# Altium footprint library Connector_RJ.PcbLib: 38 footprints (part 2 of 3)
Each footprint in its own frame and in the unit in brackets; x right, y up, seen from the top. Pads: shape width x height; smd on the part's side, far side on the other; paste and mask are expansions set on the pad; w line width, h text height; cw(c..) or ccw(c..) is an arc to the next point about the centre after c.
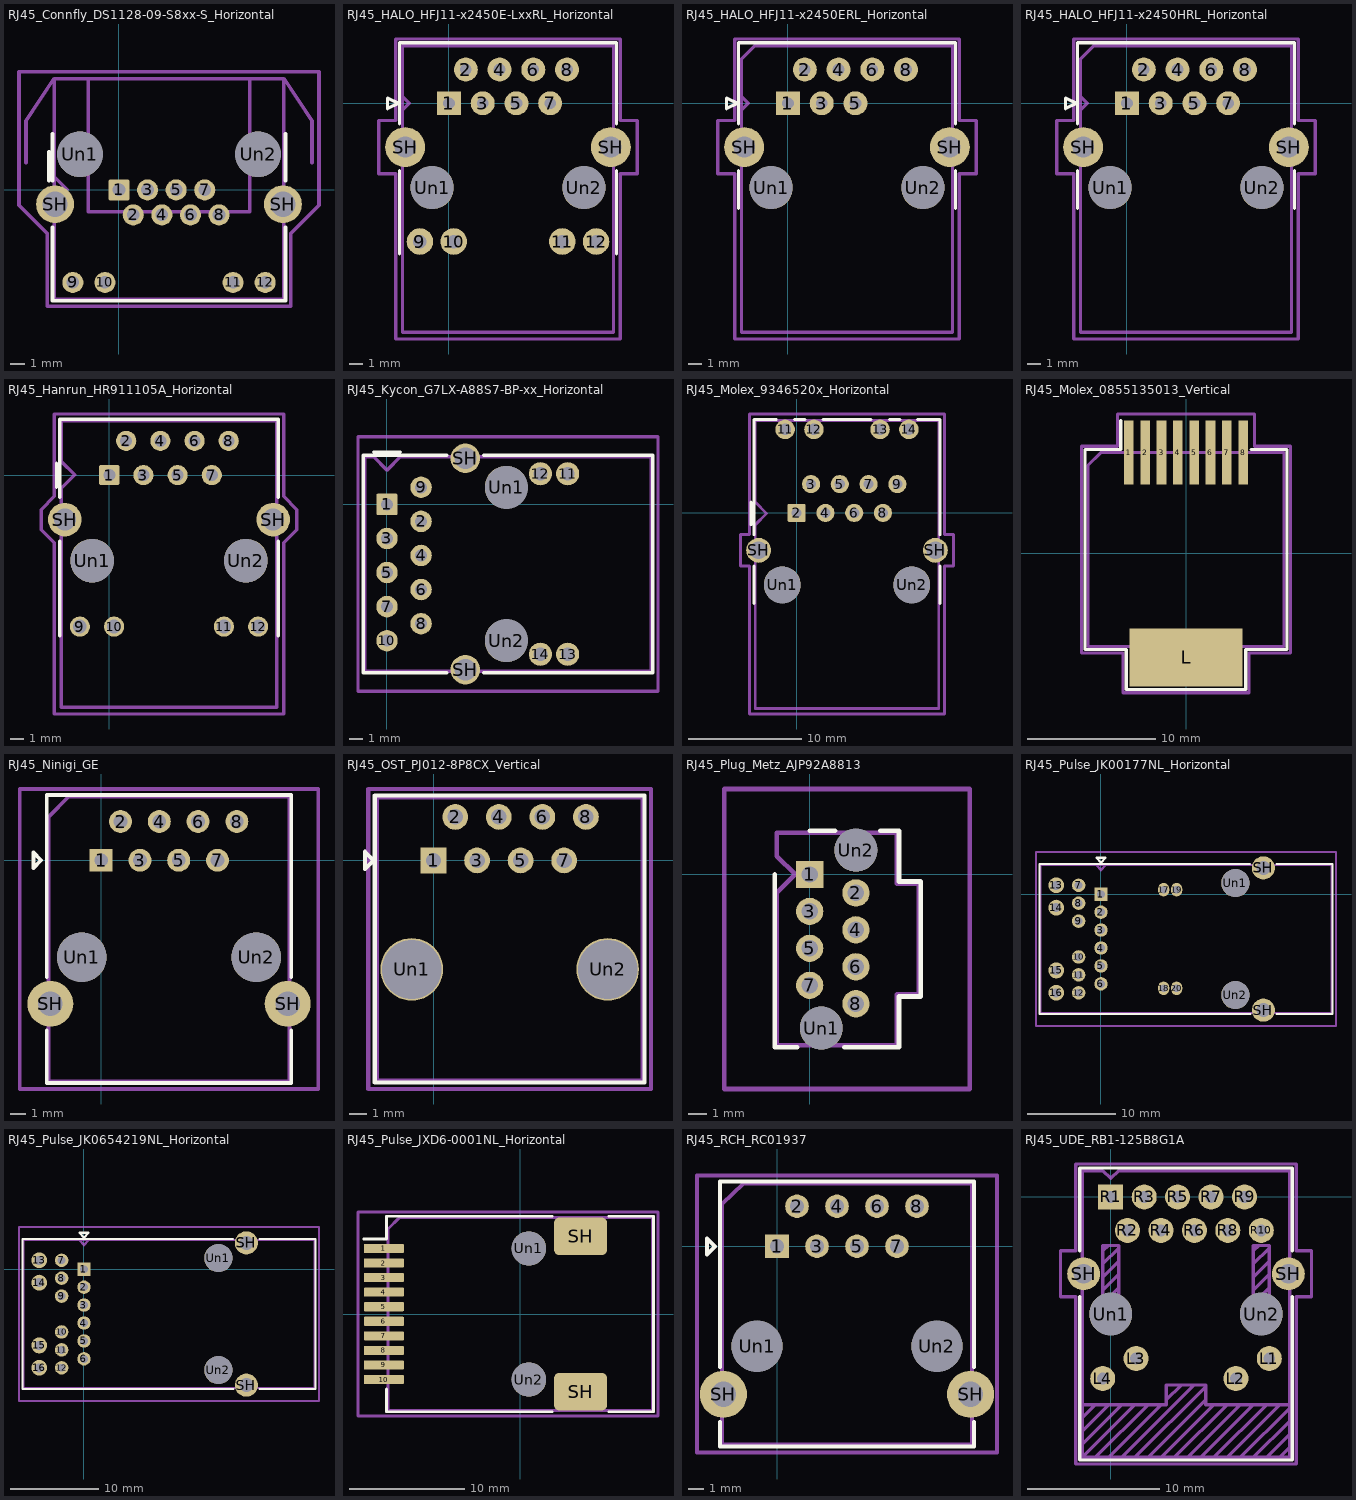
[diagram p1: the footprints below, top view; thin cyan lines are the x and y axes]

## RJ45_Connfly_DS1128-09-S8xx-S_Horizontal [mm]
pads (16):
  rrect17% 1.5x1.5 hole 0.9: 1(0,0)
  round 1.5 hole 0.9: 2(1.02,-1.78) 3(2.04,0) 4(3.06,-1.78) 5(4.08,0) 6(5.1,-1.78) 7(6.12,0) 8(7.14,-1.78) 9(-3.29,-6.6) 10(-1,-6.6) 11(8.14,-6.6) 12(10.43,-6.6)
  round 2.7 hole 1.8: SH(-4.56,-1.02) SH(11.7,-1.02)
  round 3.25 hole 3.25: Un1(-2.78,2.54) Un2(9.92,2.54)
F.SilkS:
  lines w0.254: -4.99,0.64 -4.99,2.71 ; -4.74,-2.66 -4.74,-7.92 11.88,-7.92 11.88,-2.66 ; -4.74,0.64 -4.74,4 ; 11.88,0.65 11.88,4
Top Assembly:
  lines w0.254: -6.63,1.94 -6.63,4.94 -4.63,7.94 ; -4.68,-1 -3.68,0 -4.68,1 ; 13.77,1.94 13.77,4.94 11.77,7.94 ; -4.63,7.94 -4.63,-7.81 11.77,-7.81 11.77,7.94 ; -4.63,7.94 11.77,7.94 ; -2.18,-1.56 9.32,-1.56 9.32,7.94 -2.18,7.94 -2.18,-1.56
  text "'.Designator'" at -0.477,-0.775 h1
Top Courtyard:
  lines w0.254: -7.13,-1.1 -5.13,-3.1 -5.13,-8.31 12.27,-8.31 12.27,-3.1 14.27,-1.1 14.27,8.44 -7.13,8.44 -7.13,-1.1
Top Designator:
  text ".Designator" at -4.048,-0.443 h1.52

## RJ45_HALO_HFJ11-x2450E-LxxRL_Horizontal [mm]
pads (16):
  rect 1.8x1.8 hole 0.89: 1(0,0)
  round 1.8 hole 0.89: 2(1.27,2.54) 3(2.54,0) 4(3.81,2.54) 5(5.08,0) 6(6.35,2.54) 7(7.62,0) 8(8.89,2.54)
  round 2 hole 1.02: 9(-2.185,-10.41) 10(0.355,-10.41) 11(8.535,-10.41) 12(11.075,-10.41)
  round 3 hole 1.6: SH(-3.3,-3.3) SH(12.19,-3.3)
  round 3.25 hole 3.25: Un1(-1.27,-6.35) Un2(10.16,-6.35)
F.SilkS:
  lines w0.254: -3.725,-11.35 -3.725,-5.06 ; -3.725,-1.54 -3.725,4.57 12.615,4.57 12.615,-1.54 ; 12.615,-11.35 12.615,-5.06 ; -4.625,-0.4 -3.825,0 -4.625,0.4 -4.625,-0.4
Top Assembly:
  lines w0.254: -3.495,-0.5 -2.995,0 -3.495,0.5 ; -3.495,-17.25 12.385,-17.25 12.385,4.34 -3.495,4.34 -3.495,-17.25
  text "'.Designator'" at 0.398,-14.84 h1
Top Courtyard:
  lines w0.254: -5.3,-5.3 -4,-5.3 -4,-17.75 12.89,-17.75 12.89,-5.3 14.19,-5.3 14.19,-1.3 12.89,-1.3 12.89,4.84 -4,4.84 -4,-1.3 -5.3,-1.3 -5.3,-5.3
Top Designator:
  text ".Designator" at -3.173,-6.963 h1.52

## RJ45_HALO_HFJ11-x2450ERL_Horizontal [mm]
pads (11):
  rect 1.8x1.8 hole 0.89: 1(0,0)
  round 1.8 hole 0.89: 2(1.27,2.54) 3(2.54,0) 4(3.81,2.54) 5(5.08,0) 6(6.35,2.54) 8(8.89,2.54)
  round 3 hole 1.6: SH(-3.3,-3.3) SH(12.19,-3.3)
  round 3.25 hole 3.25: Un1(-1.27,-6.35) Un2(10.16,-6.35)
F.SilkS:
  lines w0.254: -3.725,-7.915 -3.725,-5.06 ; -3.725,-1.54 -3.725,4.57 12.615,4.57 12.615,-1.54 ; 12.615,-7.915 12.615,-5.06 ; -4.625,-0.4 -3.825,0 -4.625,0.4 -4.625,-0.4
Top Assembly:
  lines w0.254: -3.495,-0.5 -2.995,0 -3.495,0.5 ; -3.495,-17.25 12.385,-17.25 12.385,4.34 -2.495,4.34 -3.495,3.34 -3.495,-17.25
  text "'.Designator'" at 0.398,-10.84 h1
Top Courtyard:
  lines w0.254: -5.3,-5.3 -4,-5.3 -4,-17.75 12.89,-17.75 12.89,-5.3 14.19,-5.3 14.19,-1.3 12.89,-1.3 12.89,4.84 -4,4.84 -4,-1.3 -5.3,-1.3 -5.3,-5.3
Top Designator:
  text ".Designator" at -3.173,-6.963 h1.52

## RJ45_HALO_HFJ11-x2450HRL_Horizontal [mm]
pads (12):
  rect 1.8x1.8 hole 0.89: 1(0,0)
  round 1.8 hole 0.89: 2(1.27,2.54) 3(2.54,0) 4(3.81,2.54) 5(5.08,0) 6(6.35,2.54) 7(7.62,0) 8(8.89,2.54)
  round 3 hole 1.6: SH(-3.3,-3.3) SH(12.19,-3.3)
  round 3.25 hole 3.25: Un1(-1.27,-6.35) Un2(10.16,-6.35)
F.SilkS:
  lines w0.254: -3.725,-7.915 -3.725,-5.06 ; -3.725,-1.54 -3.725,4.57 12.615,4.57 12.615,-1.54 ; 12.615,-7.915 12.615,-5.06 ; -4.625,-0.4 -3.825,0 -4.625,0.4 -4.625,-0.4
Top Assembly:
  lines w0.254: -3.495,-0.5 -2.995,0 -3.495,0.5 ; -3.495,-17.25 12.385,-17.25 12.385,4.34 -2.495,4.34 -3.495,3.34 -3.495,-17.25
  text "'.Designator'" at 0.398,-10.84 h1
Top Courtyard:
  lines w0.254: -5.3,-5.3 -4,-5.3 -4,-17.75 12.89,-17.75 12.89,-5.3 14.19,-5.3 14.19,-1.3 12.89,-1.3 12.89,4.84 -4,4.84 -4,-1.3 -5.3,-1.3 -5.3,-5.3
Top Designator:
  text ".Designator" at -3.173,-6.963 h1.52

## RJ45_Hanrun_HR911105A_Horizontal [mm]
pads (16):
  rrect17% 1.5x1.5 hole 0.89: 1(0,0)
  round 1.5 hole 0.89: 2(1.26,2.54) 3(2.54,0) 4(3.8,2.54) 5(5.08,0) 6(6.34,2.54) 7(7.62,0) 8(8.88,2.54)
  round 1.5 hole 1.02: 9(-2.185,-11.26) 10(0.355,-11.26) 11(8.525,-11.26) 12(11.065,-11.26)
  round 2.5 hole 1.63: SH(-3.305,-3.31) SH(12.185,-3.31)
  round 3.25 hole 3.25: Un1(-1.275,-6.36) Un2(10.155,-6.36)
F.SilkS:
  lines w0.254: -3.92,-0.9 -3.92,0.9 ; -3.69,-11.95 -3.69,-4.93 ; -3.69,-1.65 -3.69,4.15 12.57,4.15 12.57,-1.65 ; 12.57,-11.95 12.57,-4.93
Top Assembly:
  lines w0.254: -3.58,-17.26 12.46,-17.26 12.46,4.04 -3.58,4.04 -3.58,1.01 -2.58,0.01 -3.58,-0.99 -3.58,-17.26
  text "'.Designator'" at 0.393,-7.2 h1
Top Courtyard:
  lines w0.254: -5.06,-4.05 -4.08,-5.03 -4.08,-17.76 12.96,-17.76 12.96,-5.03 13.94,-4.05 13.94,-2.57 12.96,-1.59 12.96,4.54 -4.08,4.54 -4.08,-1.59 -5.06,-2.57 -5.06,-4.05
Top Designator:
  text ".Designator" at -3.178,-7.118 h1.52

## RJ45_Kycon_G7LX-A88S7-BP-xx_Horizontal [mm]
pads (18):
  rrect16% 1.6x1.6 hole 0.89: 1(0,0)
  round 1.6 hole 0.89: 2(2.54,-1.27) 3(0,-2.54) 4(2.54,-3.81) 5(0,-5.08) 6(2.54,-6.35) 7(0,-7.62) 8(2.54,-8.89) 9(2.54,1.27) 10(0,-10.16)
  round 1.72 hole 1.02: 11(13.46,2.28) 12(11.43,2.28) 13(13.46,-11.17) 14(11.43,-11.17)
  round 2.2 hole 1.63: SH(5.84,-12.32) SH(5.84,3.43)
  round 3.2 hole 3.2: Un1(8.89,1.27) Un2(8.89,-10.16)
F.SilkS:
  lines w0.254: -1,3.9 1,3.9 ; 4.47,-12.54 -1.78,-12.54 -1.78,3.65 4.47,3.65 ; 7.21,-12.54 19.81,-12.54 19.81,3.65 7.21,3.65
Top Assembly:
  lines w0.254: -1.66,-12.42 19.69,-12.42 19.69,3.53 1,3.53 0,2.53 -1,3.53 -1.66,3.53 -1.66,-12.42
  text "'.Designator'" at 3.453,-4.84 h1
Top Courtyard:
  lines w0.254: -2.16,-13.92 20.19,-13.92 20.19,5.03 -2.16,5.03 -2.16,-13.92
Top Designator:
  text ".Designator" at 1.397,-4.953 h1.52

## RJ45_Molex_9346520x_Horizontal [mm]
pads (16):
  rrect16% 1.6x1.6 hole 0.9: 2(0,0)
  round 1.6 hole 0.9: 3(1.27,2.54) 4(2.54,0) 5(3.81,2.54) 6(5.08,0) 7(6.35,2.54) 8(7.62,0) 9(8.89,2.54)
  round 1.72 hole 1.02: 11(-1.015,7.37) 12(1.525,7.37) 13(7.365,7.37) 14(9.905,7.37)
  round 2.2 hole 1.58: SH(-3.35,-3.3) SH(12.24,-3.3)
  round 3.26 hole 3.25: Un1(-1.27,-6.35) Un2(10.16,-6.35)
F.SilkS:
  lines w0.254: -4.03,-1.05 -4.03,0.95 ; -3.765,-8 -3.765,-4.67 ; -3.765,-1.93 -3.765,8.26 -1.8,8.26 ; -0.2,8.26 0.73,8.26 ; 2.33,8.26 6.56,8.26 ; 8.18,8.26 9.12,8.26 ; 10.68,8.26 12.655,8.26 12.655,-1.93 ; 12.655,-8 12.655,-4.67
Top Assembly:
  lines w0.254: -3.66,-1.04 -2.66,-0.04 ; -3.655,-1.04 -3.655,-17.25 12.545,-17.25 12.545,8.15 -3.655,8.15 -3.655,0.96 -2.655,-0.04
  text "'.Designator'" at 5.34,-9.547 h1
Top Courtyard:
  lines w0.254: -4.95,-4.69 -4.16,-4.69 -4.16,-17.75 13.05,-17.75 13.05,-4.69 13.84,-4.69 13.84,-1.89 13.05,-1.89 13.05,8.73 -4.16,8.73 -4.16,-1.89 -4.95,-1.89 -4.95,-4.69
Top Designator:
  text ".Designator" at -3.173,-5.018 h1.52

## RJ45_Molex_0855135013_Vertical [mm]
pads (9):
  rect 0.76x5 smd: 1(-4.445,7.84) 2(-3.175,7.84) 3(-1.905,7.84) 4(-0.635,7.84) 5(0.635,7.84) 6(1.905,7.84) 7(3.175,7.84) 8(4.445,7.84)
  rect 8.8x4.5 smd: L(0,-8.09)
F.SilkS:
  lines w0.254: -5.065,10.34 -5.065,8.08 -7.86,8.08 -7.86,-7.48 -4.64,-7.48 -4.64,-10.58 4.64,-10.58 4.64,-7.48 7.86,-7.48 7.86,8.08 5.08,8.08
Top Assembly:
  lines w0.254: -7.62,-7.24 7.62,-7.24 7.62,7.84 -6.62,7.84 -7.62,6.84 -7.62,-7.24
  text "'.Designator'" at -4.047,-0.84 h1
Top Courtyard:
  lines w0.254: -8.12,-7.74 -4.9,-7.74 -4.9,-10.84 4.9,-10.84 4.9,-7.74 8.12,-7.74 8.12,8.34 5.33,8.34 5.33,10.84 -5.33,10.84 -5.33,8.34 -8.12,8.34 -8.12,-7.74
Top Designator:
  text ".Designator" at -7.618,-0.508 h1.52

## RJ45_Ninigi_GE [mm]
pads (12):
  rect 1.5x1.5 hole 0.9: 1(0,0)
  round 1.5 hole 0.9: 2(1.27,2.54) 3(2.54,0) 4(3.81,2.54) 5(5.08,0) 6(6.35,2.54) 7(7.62,0) 8(8.89,2.54)
  round 3 hole 1.6: SH(-3.325,-9.4) SH(12.215,-9.4)
  round 3.25 hole 3.25: Un1(-1.27,-6.35) Un2(10.16,-6.35)
F.SilkS:
  lines w0.254: -3.565,-11.15 -3.565,-14.59 12.455,-14.59 12.455,-11.15 ; -3.565,-7.65 -3.565,4.28 12.455,4.28 12.455,-7.65 ; -4.441,-0.508 -4.441,0.508 -3.933,0 -4.441,-0.508
Top Assembly:
  lines w0.254: -3.455,-14.48 -3.455,2.84 -2.125,4.17 12.345,4.17 12.345,-14.48 -3.455,-14.48
  text "'.Designator'" at 0.398,-7.2 h1
Top Courtyard:
  lines w0.254: -5.33,-14.98 -5.33,4.67 14.22,4.67 14.22,-14.98 -5.33,-14.98
Top Designator:
  text ".Designator" at -3.173,-5.663 h1.52

## RJ45_OST_PJ012-8P8CX_Vertical [mm]
pads (10):
  rect 1.5x1.5 hole 0.9: 1(0,0)
  round 1.5 hole 0.9: 2(1.27,2.54) 3(2.54,0) 4(3.81,2.54) 5(5.08,0) 6(6.35,2.54) 7(7.62,0) 8(8.89,2.54)
  round 3.65 hole 3.45: Un1(-1.27,-6.35) Un2(10.16,-6.35)
F.SilkS:
  lines w0.254: 12.3,3.79 -3.42,3.79 -3.42,-12.95 12.31,-12.95 12.31,3.79 ; -4,-0.5 -3.5,0 -4,0.5 -4,-0.5
Top Assembly:
  lines w0.254: -4,-0.5 -3.5,0 -4,0.5 -4,-0.5 ; -3.305,-12.83 12.195,-12.83 12.195,3.67 -3.305,3.67 -3.305,-12.83
  text "'.Designator'" at 0.653,-7.19 h1
Top Courtyard:
  lines w0.254: -3.8,-13.33 12.69,-13.33 12.69,4.17 -3.8,4.17 -3.8,-13.33
Top Designator:
  text ".Designator" at -3.273,-5.088 h1.52

## RJ45_Plug_Metz_AJP92A8813 [mm]
pads (10):
  rect 1.5x1.5 hole 0.9: 1(0,0)
  round 1.5 hole 0.9: 2(2.54,-1.016) 3(0,-2.032) 4(2.54,-3.048) 5(0,-4.064) 6(2.54,-5.08) 7(0,-6.096) 8(2.54,-7.112)
  round 2.36 hole 2.36: Un1(0.635,-8.446) Un2(2.54,1.334)
F.SilkS:
  lines w0.254: -1.915,0 -1.915,-9.51 -0.69,-9.51 ; 0,2.41 1.39,2.41 ; 1.9,-9.51 4.91,-9.51 4.91,-6.71 6.11,-6.71 6.11,-0.39 4.91,-0.39 4.91,2.41 3.87,2.41
Top Assembly:
  lines w0.254: -1.805,-9.4 4.795,-9.4 4.795,-6.6 5.995,-6.6 5.995,-0.5 4.795,-0.5 4.795,2.3 -1.805,2.3 -1.805,1 -0.805,0 -1.805,-1 -1.805,-9.4
  text "'.Designator'" at 5.84,-7.647 h1
Top Courtyard:
  lines w0.254: -4.7,-11.8 8.8,-11.8 8.8,4.7 -4.7,4.7 -4.7,-11.8
Top Designator:
  text ".Designator" at -5.568,-4.058 h1.52

## RJ45_Pulse_JK00177NL_Horizontal [mm]
pads (24):
  rect 1.524x1.524 hole 0.89: 1(0,0)
  round 1.524 hole 0.89: 2(0,-2.032) 3(0,-4.064) 4(0,-6.096) 5(0,-8.128) 6(0,-10.16) 7(-2.54,1.016) 8(-2.54,-1.016) 9(-2.54,-3.048) 10(-2.54,-7.112) 11(-2.54,-9.144) 12(-2.54,-11.176)
  round 1.8 hole 1.025: 13(-5.08,1.016) 14(-5.08,-1.524) 15(-5.08,-8.636) 16(-5.08,-11.176)
  rrect100% 1.27x1.524 hole 0.89: 17(7.11,0.515) 18(7.11,-10.665) 19(8.58,0.515) 20(8.58,-10.665)
  round 2.61 hole 1.57: SH(18.415,-13.144)
  round 2.63 hole 1.57: SH(18.415,2.984)
  round 3.2 hole 3.2: Un1(15.24,1.27) Un2(15.24,-11.43)
F.SilkS:
  lines w0.254: 16.91,3.42 -6.97,3.42 -6.97,-13.57 16.92,-13.57 ; 19.91,-13.57 26.25,-13.57 26.25,3.42 19.92,3.42 ; -0.5,4.15 0.5,4.15 0,3.55 -0.5,4.15
Top Assembly:
  lines w0.254: -0.5,3.32 0,2.72 0.5,3.32 ; -6.87,-13.47 26.15,-13.47 26.15,3.32 -6.87,3.32 -6.87,-13.47
  text "'.Designator'" at 5.053,-5.94 h1
Top Courtyard:
  lines w0.254: -7.37,-14.95 26.65,-14.95 26.65,4.8 -7.37,4.8 -7.37,-14.95
Top Designator:
  text ".Designator" at 2.022,-5.583 h1.52

## RJ45_Pulse_JK0654219NL_Horizontal [mil]
pads (20):
  rect 60x60 hole 35.04: 1(0,0)
  round 60 hole 35.04: 2(0,-80) 3(0,-160) 4(0,-240) 5(0,-320) 6(0,-400) 7(-100,40) 8(-100,-40) 9(-100,-120) 10(-100,-280) 11(-100,-360) 12(-100,-440)
  round 70.87 hole 40.35: 13(-200,40) 14(-200,-60) 15(-200,-340) 16(-200,-440)
  round 102.76 hole 61.81: SH(725,-517.5)
  round 103.54 hole 61.81: SH(725,117.5)
  round 125.98 hole 125.98: Un1(600,50) Un2(600,-450)
F.SilkS:
  lines w10: 665.75,134.65 -274.41,134.65 -274.41,-534.25 666.14,-534.25 ; 783.86,-534.25 1033.46,-534.25 1033.46,134.65 784.25,134.65 ; -19.68,163.39 19.68,163.39 0,139.76 -19.68,163.39
Top Assembly:
  lines w10: -19.68,130.71 0,107.09 19.68,130.71 ; -270.47,-530.32 1029.53,-530.32 1029.53,130.71 -270.47,130.71 -270.47,-530.32
  text "'.Designator'" at 198.95,-233.87 h39.37
Top Courtyard:
  lines w10: -290.16,-588.58 1049.21,-588.58 1049.21,188.98 -290.16,188.98 -290.16,-588.58
Top Designator:
  text ".Designator" at 79.62,-219.8 h60

## RJ45_Pulse_JXD6-0001NL_Horizontal [mm]
pads (14):
  rrect25% 3.5x0.8 smd: 1(-11.875,5.715) 2(-11.875,4.445) 3(-11.875,3.175) 4(-11.875,1.905) 5(-11.875,0.635) 6(-11.875,-0.635) 7(-11.875,-1.905) 8(-11.875,-3.175) 9(-11.875,-4.445) 10(-11.875,-5.715)
  rrect25% 4.6x3.26 smd: SH(5.275,-6.77) SH(5.275,6.77)
  round 3 hole 3: Un1(0.775,5.715) Un2(0.775,-5.715)
F.SilkS:
  lines w0.254: -13.625,6.55 -11.645,6.55 -11.645,8.52 2.775,8.52 ; -11.645,-6.55 -11.645,-8.52 2.775,-8.52 ; 7.775,-8.52 11.645,-8.52 11.645,8.52 7.775,8.52
Top Assembly:
  lines w0.254: -11.525,-8.4 11.525,-8.4 11.525,8.4 -10.525,8.4 -11.525,7.4 -11.525,-8.4
  text "'.Designator'" at -4.047,-0.84 h1
Top Courtyard:
  lines w0.254: -14.13,-8.9 12.03,-8.9 12.03,8.9 -14.13,8.9 -14.13,-8.9
Top Designator:
  text ".Designator" at -8.668,-0.508 h1.52

## RJ45_RCH_RC01937 [mm]
pads (12):
  rect 1.5x1.5 hole 0.9: 1(0,0)
  round 1.5 hole 0.9: 2(1.27,2.54) 3(2.54,0) 4(3.81,2.54) 5(5.08,0) 6(6.35,2.54) 7(7.62,0) 8(8.89,2.54)
  round 3 hole 1.6: SH(-3.405,-9.4) SH(12.295,-9.4)
  round 3.25 hole 3.25: Un1(-1.27,-6.35) Un2(10.16,-6.35)
F.SilkS:
  lines w0.254: -3.615,-11.15 -3.615,-12.71 12.505,-12.71 12.505,-11.15 ; -3.615,-7.65 -3.615,4.11 12.505,4.11 12.505,-7.65 ; -4.441,-0.508 -3.933,0 -4.441,0.508 -4.441,-0.508
Top Assembly:
  lines w0.254: -3.505,-12.6 12.395,-12.6 12.395,4 -2.125,4 -3.505,2.67 -3.505,-12.6
  text "'.Designator'" at 0.398,-7.2 h1
Top Courtyard:
  lines w0.254: -5.08,-13.1 13.97,-13.1 13.97,4.5 -5.08,4.5 -5.08,-13.1
Top Designator:
  text ".Designator" at -3.173,-4.808 h1.52

## RJ45_UDE_RB1-125B8G1A [mm]
pads (18):
  round 1.9 hole 0.9: L1(12.04,-12.27) L2(9.5,-13.79) L3(1.93,-12.27) L4(-0.61,-13.79) R2(1.27,-2.54) R3(2.54,0) R4(3.81,-2.54) R5(5.08,0) R6(6.35,-2.54) R7(7.62,0) R8(8.89,-2.54) R9(10.16,0) R10(11.43,-2.54)
  rect 1.9x1.9 hole 0.9: R1(0,0)
  round 2.5 hole 1.5: SH(-2.06,-5.84) SH(13.49,-5.84)
  round 3.25 hole 3.25: Un1(0,-8.89) Un2(11.43,-8.89)
F.SilkS:
  lines w0.254: -2.36,-7.58 -2.36,-19.98 13.79,-19.98 13.79,-7.58 ; -2.36,-4.08 -2.36,2.2 13.79,2.2 13.79,-4.08
Top Assembly:
  lines w0.254: -2.16,-19.78 13.59,-19.78 13.59,2 0.6,2 0,1.4 -0.6,2 -2.16,2 -2.16,-19.78
  text "'.Designator'" at 1.953,-6.84 h1
Top Courtyard:
  lines w0.254: -3.81,-7.59 -2.66,-7.59 -2.66,-20.28 14.09,-20.28 14.09,-7.59 15.24,-7.59 15.24,-4.09 14.09,-4.09 14.09,2.5 -2.66,2.5 -2.66,-4.09 -3.81,-4.09 -3.81,-7.59
Top Designator:
  text ".Designator" at -1.903,-9.398 h1.52
Dwgs.User:
  lines w0.254: -2.16,-18.78 0.84,-15.78 ; -2.16,-17.78 -0.16,-15.78 ; -2.16,-16.78 -1.16,-15.78 ; -1.16,-19.78 2.84,-15.78 ; -0.6,-8.09 0.6,-6.89 ; -0.6,-7.09 0.6,-5.89 ; -0.6,-6.09 0.6,-4.89 ; -0.6,-5.09 0.6,-3.89 ; -0.6,-4.09 -0.2,-3.69 ; -0.16,-19.78 3.84,-15.78 ; 0.6,-7.89 -0.6,-9.09 ; 0.84,-19.77 6.33,-14.28 ; 1.84,-19.78 7.22,-14.4 ; 1.84,-15.78 -2.16,-19.78 ; 2.84,-19.77 7.22,-15.39 ; 3.84,-19.78 7.84,-15.78 ; 4.21,-15.41 5.34,-14.29 ; 4.84,-19.78 8.84,-15.78 ; 5.84,-19.78 9.84,-15.78 ; 6.84,-19.78 10.84,-15.78 ; 7.84,-19.78 11.84,-15.78 ; 8.84,-19.78 12.84,-15.78 ; 9.84,-19.78 13.59,-16.03 ; 10.83,-8.09 12.03,-6.89 ; 10.83,-7.09 12.03,-5.89 ; 10.83,-6.09 12.03,-4.89 ; 10.83,-5.09 12.03,-3.89 ; 10.83,-4.09 11.23,-3.69 ; 10.84,-19.77 13.59,-17.02 ; 11.84,-19.77 13.59,-18.02 ; 12.03,-7.89 10.83,-9.09 ; 12.84,-19.77 13.59,-19.02 ; -2.16,-19.78 13.59,-19.78 13.59,-15.78 7.22,-15.78 7.22,-14.28 4.21,-14.28 4.21,-15.78 -2.16,-15.78 -2.16,-19.78 ; -0.6,-9.09 0.6,-9.09 0.6,-3.69 -0.6,-3.69 -0.6,-9.09 ; 10.83,-9.09 12.03,-9.09 12.03,-3.69 10.83,-3.69 10.83,-9.09